# EAGLE library part ADS7828 (library kamiki)
12bit 8ch serial ADC 12-Bit, 8-Channel Sampling Analog-to-Dgital Converter with I2C Interface
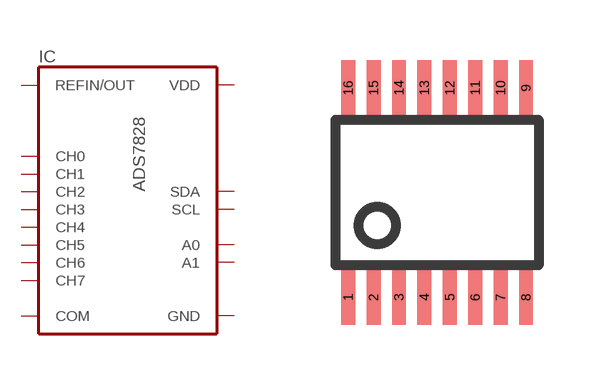
[diagram p11: symbol with the pads of TSSOP16; footprint TSSOP16]

Designator prefix IC

## ADS7828  [TSSOP16]
1  CH0  in
2  CH1  in
3  CH2  in
4  CH3  in
5  CH4  in
6  CH5  in
7  CH6  in
8  CH7  in
9  GND  pwr
10  REFIN/OUT
11  COM  in
12  A0  in
13  A1  in
14  SCL
15  SDA
16  VDD  pwr

## Footprint TSSOP16 (pad centres in mm)
Small Shrink Outline Package
smd 0.348 x 1.397: 1 -2.223,-2.619; 2 -1.588,-2.62; 3 -0.953,-2.62; 4 -0.318,-2.62; 5 0.318,-2.62; 6 0.953,-2.62; 7 1.588,-2.62; 8 2.223,-2.62; 9 2.223,2.62; 10 1.588,2.62; 11 0.953,2.62; 12 0.318,2.62; 13 -0.318,2.62; 14 -0.953,2.62; 15 -1.588,2.62; 16 -2.223,2.62